# Altium schematic symbol library VL53L1CBV0FY&slash_1.SchLib: 2 symbols
Pins are listed as number, name and electrical type; pins without a type are passive.

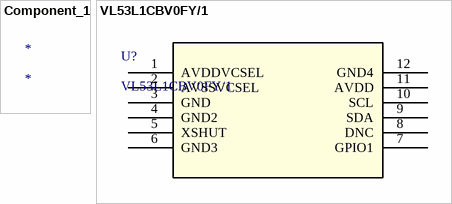
[diagram p0: symbols Component_1 to VL53L1CBV0FY/1]

## Component_1
designator *

## VL53L1CBV0FY/1
designator U?
No Description Available; Mfr_Name: STMicroelectronics; Copyright: Copyright (C) 2022 Ultra Librarian. All rights reserved.; Manufacturer_Part_Number: VL53L1CBV0FY/1; RefDes: RefDes; Type: DEV
footprint QFN_BV0FY/1_STM-M
pins: 1 AVDDVCSEL (power), 2 AVSSVCSEL, 3 GND, 4 GND2, 5 XSHUT, 6 GND3, 7 GPIO1, 8 DNC, 9 SDA, 10 SCL, 11 AVDD (power), 12 GND4